# Altium footprint library RESC3015X65N.PcbLib: 1 footprints
Each footprint in its own frame and in the unit in brackets; x right, y up, seen from the top. Pads: shape width x height; smd on the part's side, far side on the other; paste and mask are expansions set on the pad; w line width, h text height; cw(c..) or ccw(c..) is an arc to the next point about the centre after c.
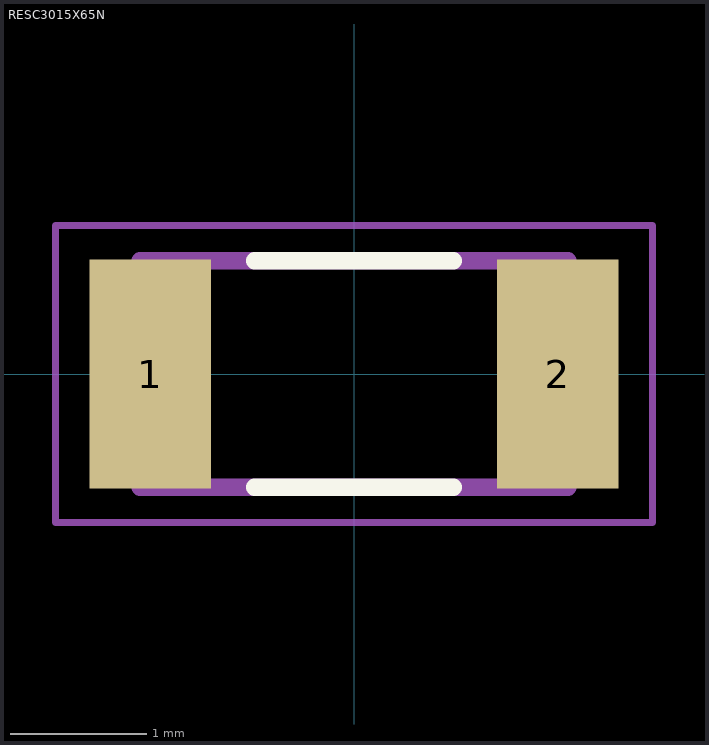
[diagram p0: the footprint, top view; thin cyan lines are the x and y axes]

## RESC3015X65N [mm]
pads (2):
  rect 0.89x1.68 smd paste+0 mask+0.102: 1(-1.495,0) 2(1.495,0)
Top Overlay:
  lines w0.127: -0.73,-0.83 0.73,-0.83 ; -0.73,0.83 0.73,0.83
Assembly Top:
  lines w0.127: -1.57,-0.83 -1.57,0.83 1.57,0.83 1.57,-0.83 -1.57,-0.83
Courtyard Top:
  lines w0.05: -2.19,-1.09 -2.19,1.09 2.19,1.09 2.19,-1.09 -2.19,-1.09
3D body "step_temp.STEP": height 0.65, standoff 0, extent -1.525,-0.775 1.525,0.775